# Altium schematic symbol library 885012206025.SchLib: 1 symbol
Pins are listed as number, name and electrical type; pins without a type are passive.

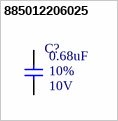
[diagram p0: symbol 885012206025]

## 885012206025
designator C?  Rated Voltage: 10V  Tolerance: 10%  Capacitence: 0.68uF  (hidden comment: 885012206025)
CAP CER 0.68UF 10V X7R 0603; MFR: Würth Elektronik; PN: 885012206025; ComponentLink1Description: Datasheet; ComponentLink1URL: www.google.com; Temperature Coefficient: X7R; Package: 0603; Footprint: C0603; Supplier 1: Mouser; Supplier Part Number 1: 710-885012206025
footprint C0603 (Generic C0603 Footprint)
pins: 1, 2